# Altium footprint library QFN_Sq_65P_Side_L.PcbLib: 53 footprints (part 4 of 4)
Each footprint in its own frame and in the unit in brackets; x right, y up, seen from the top. Pads: shape width x height; smd on the part's side, far side on the other; paste and mask are expansions set on the pad; w line width, h text height; cw(c..) or ccw(c..) is an arc to the next point about the centre after c.
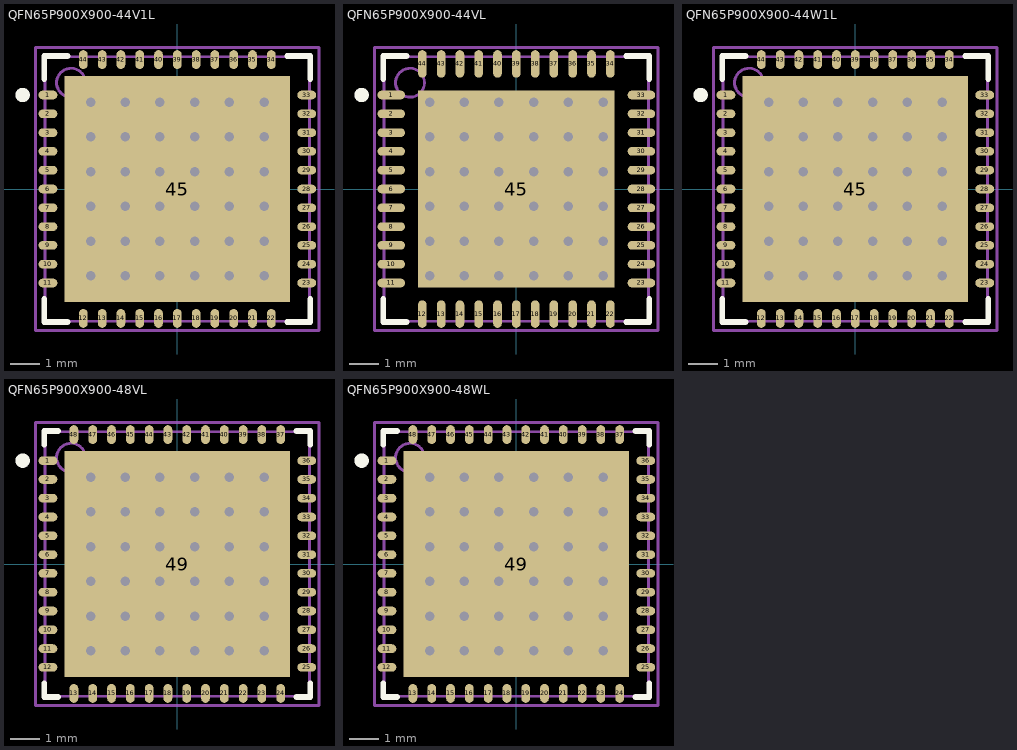
[diagram p3: the footprints below, top view; thin cyan lines are the x and y axes]

## QFN65P900X900-44V1L [mm] "QFN, 44-Leads, Body 9x9 mm, Pitch 0.65mm, IPC High Density"
height 1
pads (45):
  oval 0.65x0.3 smd: 1(-4.475,3.25) 2(-4.475,2.6) 3(-4.475,1.95) 4(-4.475,1.3) 5(-4.475,0.65) 6(-4.475,0) 7(-4.475,-0.65) 8(-4.475,-1.3) 9(-4.475,-1.95) 10(-4.475,-2.6) 11(-4.475,-3.25) 23(4.475,-3.25) 24(4.475,-2.6) 25(4.475,-1.95) 26(4.475,-1.3) 27(4.475,-0.65) 28(4.475,0) 29(4.475,0.65) 30(4.475,1.3) 31(4.475,1.95) 32(4.475,2.6) 33(4.475,3.25)
  oval 0.3x0.65 smd: 12(-3.25,-4.475) 13(-2.6,-4.475) 14(-1.95,-4.475) 15(-1.3,-4.475) 16(-0.65,-4.475) 17(0,-4.475) 18(0.65,-4.475) 19(1.3,-4.475) 20(1.95,-4.475) 21(2.6,-4.475) 22(3.25,-4.475) 34(3.25,4.475) 35(2.6,4.475) 36(1.95,4.475) 37(1.3,4.475) 38(0.65,4.475) 39(0,4.475) 40(-0.65,4.475) 41(-1.3,4.475) 42(-1.95,4.475) 43(-2.6,4.475) 44(-3.25,4.475)
  rect 7.8x7.8 smd: 45(0,0)
via 3,-3 diameter 0.66 hole 0.33
via 1.8,-3 diameter 0.66 hole 0.33
via 0.6,-3 diameter 0.66 hole 0.33
via -0.6,-3 diameter 0.66 hole 0.33
via -1.8,-3 diameter 0.66 hole 0.33
via -3,-3 diameter 0.66 hole 0.33
via 3,-1.8 diameter 0.66 hole 0.33
via 1.8,-1.8 diameter 0.66 hole 0.33
via 0.6,-1.8 diameter 0.66 hole 0.33
via -0.6,-1.8 diameter 0.66 hole 0.33
via -1.8,-1.8 diameter 0.66 hole 0.33
via -3,-1.8 diameter 0.66 hole 0.33
via 3,-0.6 diameter 0.66 hole 0.33
via 1.8,-0.6 diameter 0.66 hole 0.33
via 0.6,-0.6 diameter 0.66 hole 0.33
via -0.6,-0.6 diameter 0.66 hole 0.33
via -1.8,-0.6 diameter 0.66 hole 0.33
via -3,-0.6 diameter 0.66 hole 0.33
via 3,0.6 diameter 0.66 hole 0.33
via 1.8,0.6 diameter 0.66 hole 0.33
via 0.6,0.6 diameter 0.66 hole 0.33
via -0.6,0.6 diameter 0.66 hole 0.33
via -1.8,0.6 diameter 0.66 hole 0.33
via -3,0.6 diameter 0.66 hole 0.33
via 3,1.8 diameter 0.66 hole 0.33
via 1.8,1.8 diameter 0.66 hole 0.33
via 0.6,1.8 diameter 0.66 hole 0.33
via -0.6,1.8 diameter 0.66 hole 0.33
via -1.8,1.8 diameter 0.66 hole 0.33
via -3,1.8 diameter 0.66 hole 0.33
via 3,3 diameter 0.66 hole 0.33
via 1.8,3 diameter 0.66 hole 0.33
via 0.6,3 diameter 0.66 hole 0.33
via -0.6,3 diameter 0.66 hole 0.33
via -1.8,3 diameter 0.66 hole 0.33
via -3,3 diameter 0.66 hole 0.33
Top Overlay:
  circle w0.25: c-5.35,3.25 r0.125
  lines w0.2: -4.6,-3.8 -4.6,-4.6 -3.8,-4.6 ; -4.6,3.8 -4.6,4.6 -3.8,4.6 ; 3.8,-4.6 4.6,-4.6 4.6,-3.8 ; 3.8,4.6 4.6,4.6 4.6,3.8
Mechanical 13:
  circle w0.1: c-3.675,3.675 r0.5
  lines w0.1: -4.575,-4.575 4.575,-4.575 4.575,4.575 -4.575,4.575 -4.575,-4.575
Mechanical 15:
  lines w0.1: -0.5,0 0.5,0 ; 0,-0.5 0,0.5 ; -4.9,-4.9 4.9,-4.9 4.9,4.9 -4.9,4.9 -4.9,-4.9
3D body: height 1, standoff 0, extent -4.575,-4.575 4.575,4.575

## QFN65P900X900-44VL [mm] "QFN, 44-Leads, Body 9x9 mm, Pitch 0.65mm, IPC High Density"
height 1
pads (45):
  oval 0.95x0.3 smd: 1(-4.325,3.25) 2(-4.325,2.6) 3(-4.325,1.95) 4(-4.325,1.3) 5(-4.325,0.65) 6(-4.325,0) 7(-4.325,-0.65) 8(-4.325,-1.3) 9(-4.325,-1.95) 10(-4.325,-2.6) 11(-4.325,-3.25) 23(4.325,-3.25) 24(4.325,-2.6) 25(4.325,-1.95) 26(4.325,-1.3) 27(4.325,-0.65) 28(4.325,0) 29(4.325,0.65) 30(4.325,1.3) 31(4.325,1.95) 32(4.325,2.6) 33(4.325,3.25)
  oval 0.3x0.95 smd: 12(-3.25,-4.325) 13(-2.6,-4.325) 14(-1.95,-4.325) 15(-1.3,-4.325) 16(-0.65,-4.325) 17(0,-4.325) 18(0.65,-4.325) 19(1.3,-4.325) 20(1.95,-4.325) 21(2.6,-4.325) 22(3.25,-4.325) 34(3.25,4.325) 35(2.6,4.325) 36(1.95,4.325) 37(1.3,4.325) 38(0.65,4.325) 39(0,4.325) 40(-0.65,4.325) 41(-1.3,4.325) 42(-1.95,4.325) 43(-2.6,4.325) 44(-3.25,4.325)
  rect 6.8x6.8 smd: 45(0,0)
via -3,3 diameter 0.66 hole 0.33
via -1.8,3 diameter 0.66 hole 0.33
via -0.6,3 diameter 0.66 hole 0.33
via 0.6,3 diameter 0.66 hole 0.33
via 1.8,3 diameter 0.66 hole 0.33
via 3,3 diameter 0.66 hole 0.33
via -3,1.8 diameter 0.66 hole 0.33
via -1.8,1.8 diameter 0.66 hole 0.33
via -0.6,1.8 diameter 0.66 hole 0.33
via 0.6,1.8 diameter 0.66 hole 0.33
via 1.8,1.8 diameter 0.66 hole 0.33
via 3,1.8 diameter 0.66 hole 0.33
via -3,0.6 diameter 0.66 hole 0.33
via -1.8,0.6 diameter 0.66 hole 0.33
via -0.6,0.6 diameter 0.66 hole 0.33
via 0.6,0.6 diameter 0.66 hole 0.33
via 1.8,0.6 diameter 0.66 hole 0.33
via 3,0.6 diameter 0.66 hole 0.33
via -3,-0.6 diameter 0.66 hole 0.33
via -1.8,-0.6 diameter 0.66 hole 0.33
via -0.6,-0.6 diameter 0.66 hole 0.33
via 0.6,-0.6 diameter 0.66 hole 0.33
via 1.8,-0.6 diameter 0.66 hole 0.33
via 3,-0.6 diameter 0.66 hole 0.33
via -3,-1.8 diameter 0.66 hole 0.33
via -1.8,-1.8 diameter 0.66 hole 0.33
via -0.6,-1.8 diameter 0.66 hole 0.33
via 0.6,-1.8 diameter 0.66 hole 0.33
via 1.8,-1.8 diameter 0.66 hole 0.33
via 3,-1.8 diameter 0.66 hole 0.33
via -3,-3 diameter 0.66 hole 0.33
via -1.8,-3 diameter 0.66 hole 0.33
via -0.6,-3 diameter 0.66 hole 0.33
via 0.6,-3 diameter 0.66 hole 0.33
via 1.8,-3 diameter 0.66 hole 0.33
via 3,-3 diameter 0.66 hole 0.33
Top Overlay:
  circle w0.25: c-5.35,3.25 r0.125
  lines w0.2: -4.6,-3.8 -4.6,-4.6 -3.8,-4.6 ; -4.6,3.8 -4.6,4.6 -3.8,4.6 ; 3.8,-4.6 4.6,-4.6 4.6,-3.8 ; 3.8,4.6 4.6,4.6 4.6,3.8
Mechanical 13:
  circle w0.1: c-3.675,3.675 r0.5
  lines w0.1: -4.575,-4.575 -4.575,4.575 4.575,4.575 4.575,-4.575 -4.575,-4.575
Mechanical 15:
  lines w0.1: -0.5,0 0.5,0 ; 0,-0.5 0,0.5 ; -4.9,-4.9 -4.9,4.9 4.9,4.9 4.9,-4.9 -4.9,-4.9
3D body: height 1, standoff 0, extent -4.575,-4.575 4.575,4.575

## QFN65P900X900-44W1L [mm] "QFN, 44-Leads, Body 9x9 mm, Pitch 0.65mm, IPC High Density"
height 0.8
pads (45):
  oval 0.65x0.3 smd: 1(-4.475,3.25) 2(-4.475,2.6) 3(-4.475,1.95) 4(-4.475,1.3) 5(-4.475,0.65) 6(-4.475,0) 7(-4.475,-0.65) 8(-4.475,-1.3) 9(-4.475,-1.95) 10(-4.475,-2.6) 11(-4.475,-3.25) 23(4.475,-3.25) 24(4.475,-2.6) 25(4.475,-1.95) 26(4.475,-1.3) 27(4.475,-0.65) 28(4.475,0) 29(4.475,0.65) 30(4.475,1.3) 31(4.475,1.95) 32(4.475,2.6) 33(4.475,3.25)
  oval 0.3x0.65 smd: 12(-3.25,-4.475) 13(-2.6,-4.475) 14(-1.95,-4.475) 15(-1.3,-4.475) 16(-0.65,-4.475) 17(0,-4.475) 18(0.65,-4.475) 19(1.3,-4.475) 20(1.95,-4.475) 21(2.6,-4.475) 22(3.25,-4.475) 34(3.25,4.475) 35(2.6,4.475) 36(1.95,4.475) 37(1.3,4.475) 38(0.65,4.475) 39(0,4.475) 40(-0.65,4.475) 41(-1.3,4.475) 42(-1.95,4.475) 43(-2.6,4.475) 44(-3.25,4.475)
  rect 7.8x7.8 smd: 45(0,0)
via 3,-3 diameter 0.66 hole 0.33
via 1.8,-3 diameter 0.66 hole 0.33
via 0.6,-3 diameter 0.66 hole 0.33
via -0.6,-3 diameter 0.66 hole 0.33
via -1.8,-3 diameter 0.66 hole 0.33
via -3,-3 diameter 0.66 hole 0.33
via 3,-1.8 diameter 0.66 hole 0.33
via 1.8,-1.8 diameter 0.66 hole 0.33
via 0.6,-1.8 diameter 0.66 hole 0.33
via -0.6,-1.8 diameter 0.66 hole 0.33
via -1.8,-1.8 diameter 0.66 hole 0.33
via -3,-1.8 diameter 0.66 hole 0.33
via 3,-0.6 diameter 0.66 hole 0.33
via 1.8,-0.6 diameter 0.66 hole 0.33
via 0.6,-0.6 diameter 0.66 hole 0.33
via -0.6,-0.6 diameter 0.66 hole 0.33
via -1.8,-0.6 diameter 0.66 hole 0.33
via -3,-0.6 diameter 0.66 hole 0.33
via 3,0.6 diameter 0.66 hole 0.33
via 1.8,0.6 diameter 0.66 hole 0.33
via 0.6,0.6 diameter 0.66 hole 0.33
via -0.6,0.6 diameter 0.66 hole 0.33
via -1.8,0.6 diameter 0.66 hole 0.33
via -3,0.6 diameter 0.66 hole 0.33
via 3,1.8 diameter 0.66 hole 0.33
via 1.8,1.8 diameter 0.66 hole 0.33
via 0.6,1.8 diameter 0.66 hole 0.33
via -0.6,1.8 diameter 0.66 hole 0.33
via -1.8,1.8 diameter 0.66 hole 0.33
via -3,1.8 diameter 0.66 hole 0.33
via 3,3 diameter 0.66 hole 0.33
via 1.8,3 diameter 0.66 hole 0.33
via 0.6,3 diameter 0.66 hole 0.33
via -0.6,3 diameter 0.66 hole 0.33
via -1.8,3 diameter 0.66 hole 0.33
via -3,3 diameter 0.66 hole 0.33
Top Overlay:
  circle w0.25: c-5.35,3.25 r0.125
  lines w0.2: -4.6,-3.8 -4.6,-4.6 -3.8,-4.6 ; -4.6,3.8 -4.6,4.6 -3.8,4.6 ; 3.8,-4.6 4.6,-4.6 4.6,-3.8 ; 3.8,4.6 4.6,4.6 4.6,3.8
Mechanical 13:
  circle w0.1: c-3.675,3.675 r0.5
  lines w0.1: -4.575,-4.575 4.575,-4.575 4.575,4.575 -4.575,4.575 -4.575,-4.575
Mechanical 15:
  lines w0.1: -0.5,0 0.5,0 ; 0,-0.5 0,0.5 ; -4.9,-4.9 4.9,-4.9 4.9,4.9 -4.9,4.9 -4.9,-4.9
3D body: height 0.8, standoff 0, extent -4.575,-4.575 4.575,4.575

## QFN65P900X900-48VL [mm] "QFN, 48-Leads, Body 9x9 mm, Pitch 0.65mm, IPC High Density"
height 1
pads (49):
  oval 0.65x0.3 smd: 1(-4.475,3.575) 2(-4.475,2.925) 3(-4.475,2.275) 4(-4.475,1.625) 5(-4.475,0.975) 6(-4.475,0.325) 7(-4.475,-0.325) 8(-4.475,-0.975) 9(-4.475,-1.625) 10(-4.475,-2.275) 11(-4.475,-2.925) 12(-4.475,-3.575) 25(4.475,-3.575) 26(4.475,-2.925) 27(4.475,-2.275) 28(4.475,-1.625) 29(4.475,-0.975) 30(4.475,-0.325) 31(4.475,0.325) 32(4.475,0.975) 33(4.475,1.625) 34(4.475,2.275) 35(4.475,2.925) 36(4.475,3.575)
  oval 0.3x0.65 smd: 13(-3.575,-4.475) 14(-2.925,-4.475) 15(-2.275,-4.475) 16(-1.625,-4.475) 17(-0.975,-4.475) 18(-0.325,-4.475) 19(0.325,-4.475) 20(0.975,-4.475) 21(1.625,-4.475) 22(2.275,-4.475) 23(2.925,-4.475) 24(3.575,-4.475) 37(3.575,4.475) 38(2.925,4.475) 39(2.275,4.475) 40(1.625,4.475) 41(0.975,4.475) 42(0.325,4.475) 43(-0.325,4.475) 44(-0.975,4.475) 45(-1.625,4.475) 46(-2.275,4.475) 47(-2.925,4.475) 48(-3.575,4.475)
  rect 7.8x7.8 smd: 49(0,0)
via 3,-3 diameter 0.66 hole 0.33
via 1.8,-3 diameter 0.66 hole 0.33
via 0.6,-3 diameter 0.66 hole 0.33
via -0.6,-3 diameter 0.66 hole 0.33
via -1.8,-3 diameter 0.66 hole 0.33
via -3,-3 diameter 0.66 hole 0.33
via 3,-1.8 diameter 0.66 hole 0.33
via 1.8,-1.8 diameter 0.66 hole 0.33
via 0.6,-1.8 diameter 0.66 hole 0.33
via -0.6,-1.8 diameter 0.66 hole 0.33
via -1.8,-1.8 diameter 0.66 hole 0.33
via -3,-1.8 diameter 0.66 hole 0.33
via 3,-0.6 diameter 0.66 hole 0.33
via 1.8,-0.6 diameter 0.66 hole 0.33
via 0.6,-0.6 diameter 0.66 hole 0.33
via -0.6,-0.6 diameter 0.66 hole 0.33
via -1.8,-0.6 diameter 0.66 hole 0.33
via -3,-0.6 diameter 0.66 hole 0.33
via 3,0.6 diameter 0.66 hole 0.33
via 1.8,0.6 diameter 0.66 hole 0.33
via 0.6,0.6 diameter 0.66 hole 0.33
via -0.6,0.6 diameter 0.66 hole 0.33
via -1.8,0.6 diameter 0.66 hole 0.33
via -3,0.6 diameter 0.66 hole 0.33
via 3,1.8 diameter 0.66 hole 0.33
via 1.8,1.8 diameter 0.66 hole 0.33
via 0.6,1.8 diameter 0.66 hole 0.33
via -0.6,1.8 diameter 0.66 hole 0.33
via -1.8,1.8 diameter 0.66 hole 0.33
via -3,1.8 diameter 0.66 hole 0.33
via 3,3 diameter 0.66 hole 0.33
via 1.8,3 diameter 0.66 hole 0.33
via 0.6,3 diameter 0.66 hole 0.33
via -0.6,3 diameter 0.66 hole 0.33
via -1.8,3 diameter 0.66 hole 0.33
via -3,3 diameter 0.66 hole 0.33
Top Overlay:
  circle w0.25: c-5.35,3.575 r0.125
  lines w0.2: -4.6,-4.125 -4.6,-4.6 -4.125,-4.6 ; -4.6,4.125 -4.6,4.6 -4.125,4.6 ; 4.125,-4.6 4.6,-4.6 4.6,-4.125 ; 4.125,4.6 4.6,4.6 4.6,4.125
Mechanical 13:
  circle w0.1: c-3.675,3.675 r0.5
  lines w0.1: -4.575,-4.575 4.575,-4.575 4.575,4.575 -4.575,4.575 -4.575,-4.575
Mechanical 15:
  lines w0.1: -0.5,0 0.5,0 ; 0,-0.5 0,0.5 ; -4.9,-4.9 4.9,-4.9 4.9,4.9 -4.9,4.9 -4.9,-4.9
3D body: height 1, standoff 0, extent -4.575,-4.575 4.575,4.575

## QFN65P900X900-48WL [mm] "QFN, 48-Leads, Body 9x9 mm, Pitch 0.65mm, IPC High Density"
height 0.8
pads (49):
  oval 0.65x0.3 smd: 1(-4.475,3.575) 2(-4.475,2.925) 3(-4.475,2.275) 4(-4.475,1.625) 5(-4.475,0.975) 6(-4.475,0.325) 7(-4.475,-0.325) 8(-4.475,-0.975) 9(-4.475,-1.625) 10(-4.475,-2.275) 11(-4.475,-2.925) 12(-4.475,-3.575) 25(4.475,-3.575) 26(4.475,-2.925) 27(4.475,-2.275) 28(4.475,-1.625) 29(4.475,-0.975) 30(4.475,-0.325) 31(4.475,0.325) 32(4.475,0.975) 33(4.475,1.625) 34(4.475,2.275) 35(4.475,2.925) 36(4.475,3.575)
  oval 0.3x0.65 smd: 13(-3.575,-4.475) 14(-2.925,-4.475) 15(-2.275,-4.475) 16(-1.625,-4.475) 17(-0.975,-4.475) 18(-0.325,-4.475) 19(0.325,-4.475) 20(0.975,-4.475) 21(1.625,-4.475) 22(2.275,-4.475) 23(2.925,-4.475) 24(3.575,-4.475) 37(3.575,4.475) 38(2.925,4.475) 39(2.275,4.475) 40(1.625,4.475) 41(0.975,4.475) 42(0.325,4.475) 43(-0.325,4.475) 44(-0.975,4.475) 45(-1.625,4.475) 46(-2.275,4.475) 47(-2.925,4.475) 48(-3.575,4.475)
  rect 7.8x7.8 smd: 49(0,0)
via 3,-3 diameter 0.66 hole 0.33
via 1.8,-3 diameter 0.66 hole 0.33
via 0.6,-3 diameter 0.66 hole 0.33
via -0.6,-3 diameter 0.66 hole 0.33
via -1.8,-3 diameter 0.66 hole 0.33
via -3,-3 diameter 0.66 hole 0.33
via 3,-1.8 diameter 0.66 hole 0.33
via 1.8,-1.8 diameter 0.66 hole 0.33
via 0.6,-1.8 diameter 0.66 hole 0.33
via -0.6,-1.8 diameter 0.66 hole 0.33
via -1.8,-1.8 diameter 0.66 hole 0.33
via -3,-1.8 diameter 0.66 hole 0.33
via 3,-0.6 diameter 0.66 hole 0.33
via 1.8,-0.6 diameter 0.66 hole 0.33
via 0.6,-0.6 diameter 0.66 hole 0.33
via -0.6,-0.6 diameter 0.66 hole 0.33
via -1.8,-0.6 diameter 0.66 hole 0.33
via -3,-0.6 diameter 0.66 hole 0.33
via 3,0.6 diameter 0.66 hole 0.33
via 1.8,0.6 diameter 0.66 hole 0.33
via 0.6,0.6 diameter 0.66 hole 0.33
via -0.6,0.6 diameter 0.66 hole 0.33
via -1.8,0.6 diameter 0.66 hole 0.33
via -3,0.6 diameter 0.66 hole 0.33
via 3,1.8 diameter 0.66 hole 0.33
via 1.8,1.8 diameter 0.66 hole 0.33
via 0.6,1.8 diameter 0.66 hole 0.33
via -0.6,1.8 diameter 0.66 hole 0.33
via -1.8,1.8 diameter 0.66 hole 0.33
via -3,1.8 diameter 0.66 hole 0.33
via 3,3 diameter 0.66 hole 0.33
via 1.8,3 diameter 0.66 hole 0.33
via 0.6,3 diameter 0.66 hole 0.33
via -0.6,3 diameter 0.66 hole 0.33
via -1.8,3 diameter 0.66 hole 0.33
via -3,3 diameter 0.66 hole 0.33
Top Overlay:
  circle w0.25: c-5.35,3.575 r0.125
  lines w0.2: -4.6,-4.125 -4.6,-4.6 -4.125,-4.6 ; -4.6,4.125 -4.6,4.6 -4.125,4.6 ; 4.125,-4.6 4.6,-4.6 4.6,-4.125 ; 4.125,4.6 4.6,4.6 4.6,4.125
Mechanical 13:
  circle w0.1: c-3.675,3.675 r0.5
  lines w0.1: -4.575,-4.575 4.575,-4.575 4.575,4.575 -4.575,4.575 -4.575,-4.575
Mechanical 15:
  lines w0.1: -0.5,0 0.5,0 ; 0,-0.5 0,0.5 ; -4.9,-4.9 4.9,-4.9 4.9,4.9 -4.9,4.9 -4.9,-4.9
3D body: height 0.8, standoff 0, extent -4.575,-4.575 4.575,4.575